# EAGLE library part SWD (library scono)
https://www.digikey.com/product-detail/en/amphenol-fci/20021121-00010C4LF/609-3695-1-ND/2209147
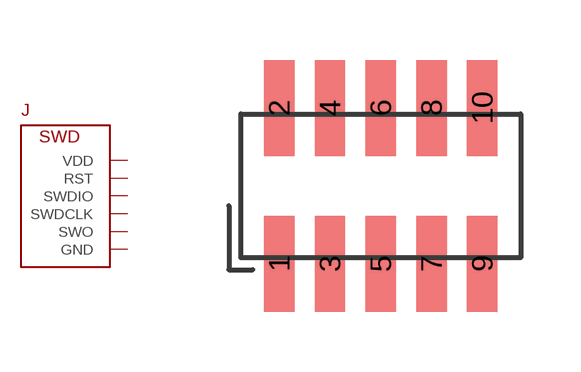
[diagram p28: symbol with the pads of SWD; footprint SWD]

Designator prefix J

## SWD  [SWD]
1  VDD  pwr
2  SWDIO
3  GND  pwr
4  SWDCLK
5  GND  pwr
6  SWO
7  GND  pwr
9  GND  pwr
10  RST  in

## Footprint SWD (pad centres in mm)
https://www.digikey.com/product-detail/en/amphenol-fci/20021121-00010C4LF/609-3695-1-ND/2209147
smd 0.76 x 2.4: 1 -2.54,-1.95; 2 -2.54,1.95; 3 -1.27,-1.95; 4 -1.27,1.95; 5 0,-1.95; 6 0,1.95; 7 1.27,-1.95; 8 1.27,1.95; 9 2.54,-1.95; 10 2.54,1.95